# Altium footprint library PCB - POWER INDUCTORS - WURTH WE-LQFS 3818.PcbLib: 1 footprints
Each footprint in its own frame and in the unit in brackets; x right, y up, seen from the top. Pads: shape width x height; smd on the part's side, far side on the other; paste and mask are expansions set on the pad; w line width, h text height; cw(c..) or ccw(c..) is an arc to the next point about the centre after c.
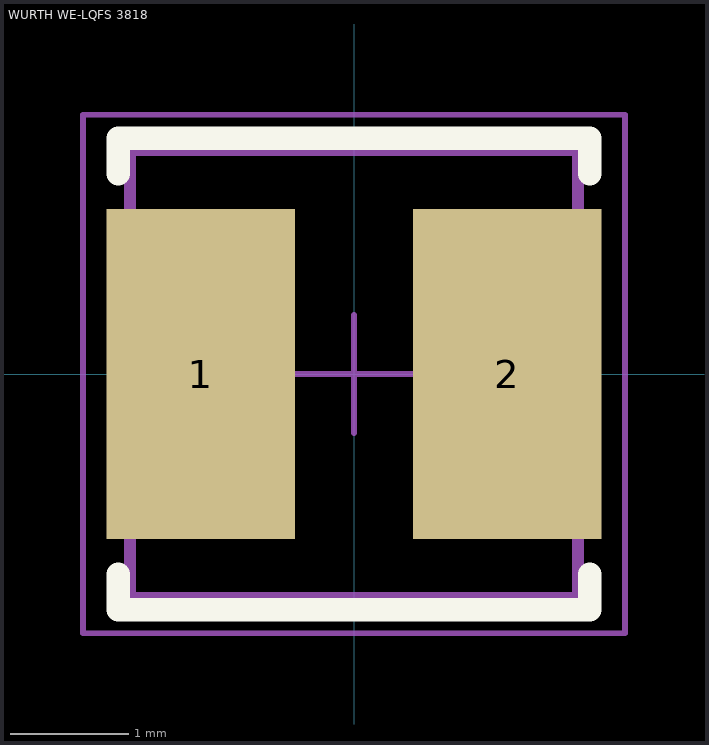
[diagram p0: the footprint, top view; thin cyan lines are the x and y axes]

## WURTH WE-LQFS 3818 [mm] "SMT Power Inductor, body 3.8x3.8mm"
height 1.8
pads (2):
  rect 1.6x2.8 smd: 1(-1.3,0) 2(1.3,0)
Top Overlay:
  lines w0.2: -2,-1.7 -2,-2 2,-2 2,-1.7 ; -2,1.7 -2,2 2,2 2,1.7
Top Assembly:
  lines w0.05: -0.5,0 0.5,0 ; 0,-0.5 0,0.5
  lines w0.1: -1.9,-1.9 1.9,-1.9 1.9,1.9 -1.9,1.9 -1.9,-1.9
Top Component Outline:
  lines w0.1: -1.9,-1.9 1.9,-1.9 1.9,1.9 -1.9,1.9 -1.9,-1.9
Top Courtyard:
  lines w0.05: -2.3,-2.2 -2.3,2.2 2.3,2.2 2.3,-2.2 -2.3,-2.2
3D body "WURTH 3818_7440603.step": height 1.8, standoff 0, extent -1.9,-1.884 1.9,1.916